# EAGLE library part LP3982IMM-3.3/NOPB (library clackboard_lib)
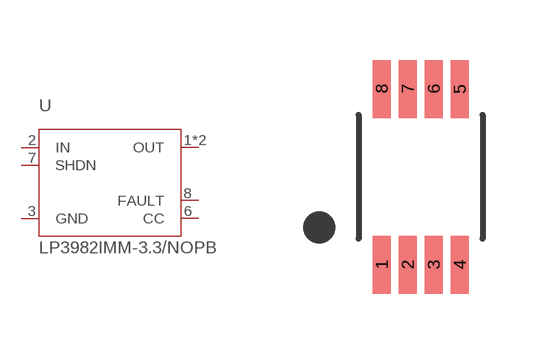
[diagram p4: symbol with the pads of LP3982IMM-3.3/NOPB; footprint LP3982IMM-3.3/NOPB]

Designator prefix U

## LP3982IMM-3.3/NOPB  [LP3982IMM-3.3/NOPB]
1  OUT
2  IN
3  GND
4  OUT
6  CC
7  SHDN
8  FAULT

## Footprint LP3982IMM-3.3/NOPB (pad centres in mm)
smd 0.45 x 1.45: 1 -0.975,-2.2; 2 -0.325,-2.2; 3 0.325,-2.2; 4 0.975,-2.2; 5 0.975,2.2; 6 0.325,2.2; 7 -0.325,2.2; 8 -0.975,2.2